# EAGLE library part RA8835 (library wntrmute)
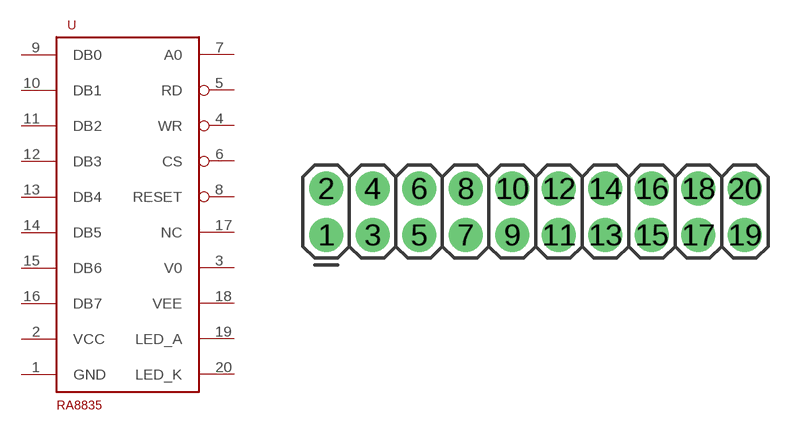
[diagram p6: symbol with the pads of 2X10; footprint 2X10]

Designator prefix -

## RA8835  [2X10]
1  GND  pwr
2  VCC  pwr
3  V0
4  WR  in
5  RD  in
6  CS  in
7  A0  in
8  RESET  in
9  DB0
10  DB1
11  DB2
12  DB3
13  DB4
14  DB5
15  DB6
16  DB7
17  NC  nc
18  VEE
19  LED_A
20  LED_K

## Footprint 2X10 (pad centres in mm)
Plated Through Hole - 2x10 Specifications: Pin count:20 Pin pitch:0.1" Example device(s): CONN_10x2
drill 1.016 pad 1.88: 1 0,0; 2 0,2.54; 3 2.54,0; 4 2.54,2.54; 5 5.08,0; 6 5.08,2.54; 7 7.62,0; 8 7.62,2.54; 9 10.16,0; 10 10.16,2.54; 11 12.7,0; 12 12.7,2.54; 13 15.24,0; 14 15.24,2.54; 15 17.78,0; 16 17.78,2.54; 17 20.32,0; 18 20.32,2.54; 19 22.86,0; 20 22.86,2.54